# Altium footprint library SM_DIODE_SMB.PcbLib: 1 footprints
Each footprint in its own frame and in the unit in brackets; x right, y up, seen from the top. Pads: shape width x height; smd on the part's side, far side on the other; paste and mask are expansions set on the pad; w line width, h text height; cw(c..) or ccw(c..) is an arc to the next point about the centre after c.
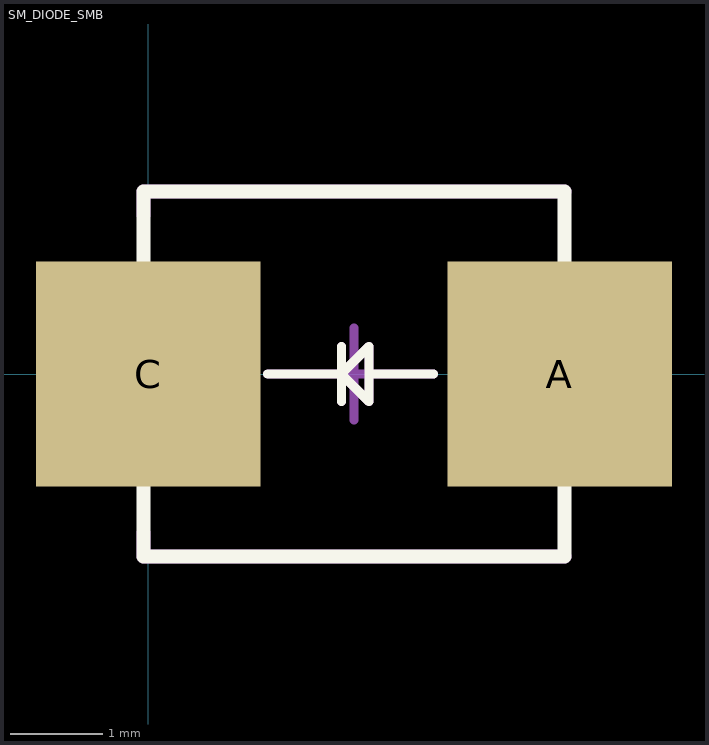
[diagram p0: the footprint, top view; thin cyan lines are the x and y axes]

## SM_DIODE_SMB [mil]
pads (2):
  rect 96x96 smd: A(176,0) C(0,0)
Top Overlay:
  lines w3.93: 51.13,0 82.6,0 ; 82.6,-11.8 82.6,11.8 ; 121.93,0 94.4,0 ; 82.6,0 94.4,11.8 94.4,0 ; 82.6,0 94.4,-11.8 94.4,0
  lines w6: -2,-78 178,-78 178,78 -2,78 -2,-68 -2,-78
Mechanical 1:
  lines w3.93: 51.13,0 82.6,0 ; 82.6,-11.8 82.6,0 ; 82.6,11.8 82.6,0 ; 94.4,0 121.93,0 ; 82.6,0 94.4,11.8 94.4,-11.8 82.6,0
  lines w6: -2,-68 -2,-78 178,-78 ; -2,68 -2,78 178,78
Mechanical 15:
  lines w3.94: 68.31,0 107.69,0 ; 88,-19.68 88,19.68
3D body: height 90.16, standoff 0, extent -0.58,-54.92 176.58,54.92